# Altium schematic symbol library C0805C334J5RECAUTO.SchLib: 1 symbol
Pins are listed as number, name and electrical type; pins without a type are passive.

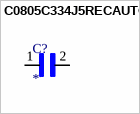
[diagram p0: symbol C0805C334J5RECAUTO]

## C0805C334J5RECAUTO
designator C?
MF: {'manufacturer': u'KEMET'}; MP: C0805C334J5RECAUTO; Value: *; Package: None; Availability: Unavailable; Price: None
footprint CAPC2012X100N
pins: 1, 2